# Altium footprint library VISHAY_SMPC.PcbLib: 1 footprints
Each footprint in its own frame and in the unit in brackets; x right, y up, seen from the top. Pads: shape width x height; smd on the part's side, far side on the other; paste and mask are expansions set on the pad; w line width, h text height; cw(c..) or ccw(c..) is an arc to the next point about the centre after c.
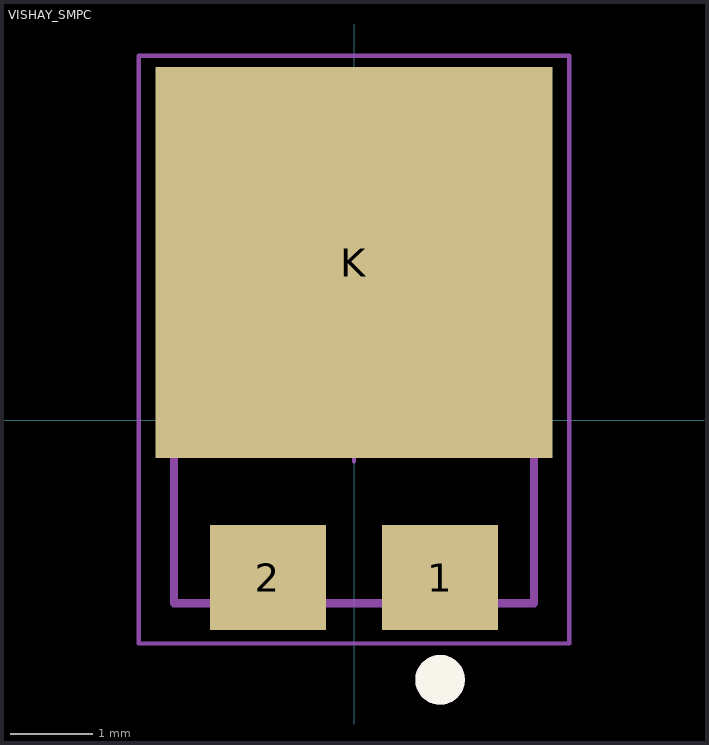
[diagram p0: the footprint, top view; thin cyan lines are the x and y axes]

## VISHAY_SMPC [mm] "VISHAY_SMPC"
height 1.2
pads (3):
  rect 1.4x1.27 smd mask+0.05: 1(1.04,-1.902) 2(-1.04,-1.902)
  rect 4.8x4.72 smd mask+0.05: K(0,1.903)
Top Overlay:
  circle w0.3: c1.04,-3.137 r0.15
Top 3D Body:
  circle w0.3: c1.04,-3.137 r0.15
  lines w0.1: -2.175,-2.213 -2.175,3.938 2.175,3.938 2.175,-2.213 -2.175,-2.213
Top Courtyard (Mech15):
  lines w0.05: -0.5,0 0.5,0 ; 0,-0.5 0,0.5 ; -2.6,-2.7 -2.6,4.4 2.6,4.4 2.6,-2.7 -2.6,-2.7
3D body "VISHAY_SMPC.step": height 1.2, standoff 0, extent -2.375,-2.45 2.375,4.2